# Altium schematic symbol library multiplex.SchLib: 1 symbol
Pins are listed as number, name and electrical type; pins without a type are passive.

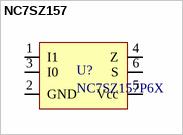
[diagram p0: symbol NC7SZ157]

## NC7SZ157
designator U?, comment NC7SZ157P6X
footprint PSON65P220X250X80-7V (PSON, 6-Leads, Body 2.2x2.5 mm, Pitch 0.65mm, NSC Recommended (SC-70 Land))
pins: 1 I1, 2 GND, 3 I0, 4 Z, 5 Vcc, 6 S